# EAGLE library part 6101? (library Volks73-WurthElectronics)
6-Pin (3x2) Right-Angle, Surface Mount Male Header WR-PHD Documentation Drawing <http://katalog.we-online.de/em/datasheet/6101xx249121.pdf>
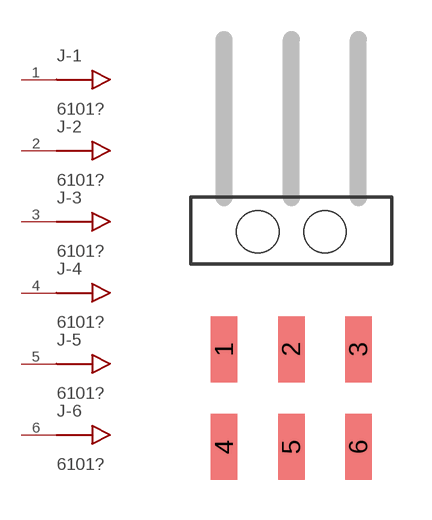
[diagram p1: symbol with the pads of 06249121; footprint 06249121]

Designator prefix J; gates -1=MALE_CONNECTOR -2=MALE_CONNECTOR -3=MALE_CONNECTOR -4=MALE_CONNECTOR -5=MALE_CONNECTOR -6=MALE_CONNECTOR

## 610106249121 (CATEGORY: Connectors, Interconnects; COLOR: Black; CONNECTOR_TYPE: Header, Unshrouded; CONTACT_FINISH: Gold; CONTACT_FINISH_THICKNESS: -; CONTACT_MATING_LENGTH: 0.236" (6.00mm); CONTACT_TYPE: Male Pin; DESCRIPTION: 6 Positions Header, Unshrouded Connector 0.100" (2.54mm) Surface Mount, Right Angle Gold; DOCUMENTATION_LINK: <a href="http://katalog.we-online.de/em/datasheet/6101xx249121.pdf>Drawing</a>; FAMILY: Rectangular Connectors - Headers, Male Pins; FASTENING_TYPE: -; FEATURES: Board Guide; MANUFACTURER: Wurth Electronics Inc; MOUNTING_TYPE: Surface Mount, Right Angle; NUMBER_OF_POSITIONS: 6; NUMBER_OF_POSITIONS_LOADED: All; NUMBER_OF_ROWS: 2; PART_NUMBER: 610106249121; PITCH: 0.100" (2.54mm); ROW_SPACING: 0.100" (2.54mm); SERIES: WR-PHD; SUPPLIER_ITEM_LINK: <a href="http://www.digikey.com/product-detail/en/wurth-electronics-inc/610106249121/732-6067-1-ND/5047531">Details</a>; SUPPLIER_ITEM_NUMBER: 732-6067-1-ND; SUPPLIER_ITEM_URL: http://www.digikey.com/product-detail/en/wurth-electronics-inc/610106249121/732-6067-1-ND/5047531; SUPPLIER_LINK: <a href="http://www.digikey.com">Supplier</a>; SUPPLIER_NAME: Digi-Key; SUPPLIER_URL: http://www.digikey.com; TERMINATION: Solder)  [06249121]
1  -1:P$1
2  -2:P$1
3  -3:P$1
4  -4:P$1
5  -5:P$1
6  -6:P$1

## Footprint 06249121 (pad centres in mm)
6-Pin 3x2 Male Header, Right Angle, Surface Mount, 0.100" (2.54mm) Lead Spacing WR-PHD
smd 1 x 2.5: 1 -2.54,-1.96; 2 0,-1.96; 3 2.54,-1.96; 4 -2.54,-5.66; 5 0,-5.66; 6 2.54,-5.66
hole 1.6 at -1.27,2.49
hole 1.6 at 1.27,2.49